# EAGLE library part SFW15R_FFC (library NR_connectors)
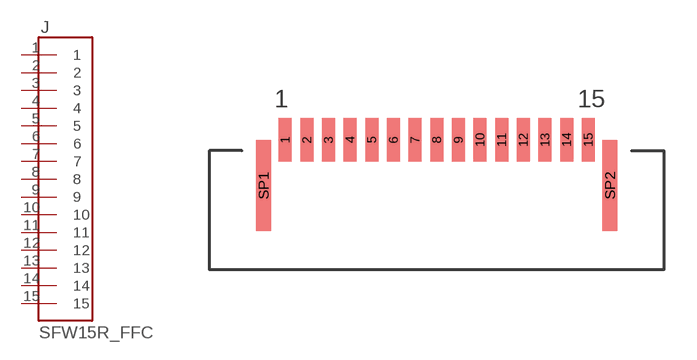
[diagram p1: symbol with the pads of AMPHENOL_15_FFC; footprint AMPHENOL_15_FFC]

Designator prefix J

## SFW15R_FFC  [AMPHENOL_15_FFC]
1  1
2  2
3  3
4  4
5  5
6  6
7  7
8  8
9  9
10  10
11  11
12  12
13  13
14  14
15  15

## Footprint AMPHENOL_15_FFC (pad centres in mm)
smd 0.6 x 2: 1 -7,2.5; 2 -6,2.5; 3 -5,2.5; 4 -4,2.5; 5 -3,2.5; 6 -2,2.5; 7 -1,2.5; 8 0,2.5; 9 1,2.5; 10 2,2.5; 11 3,2.5; 12 4,2.5; 13 5,2.5; 14 6,2.5; 15 7,2.5
smd 0.7 x 4.2: SP1 -8,0.4; SP2 8,0.4